# EAGLE library part 7SEG-KC-? (library kiks-discrete)
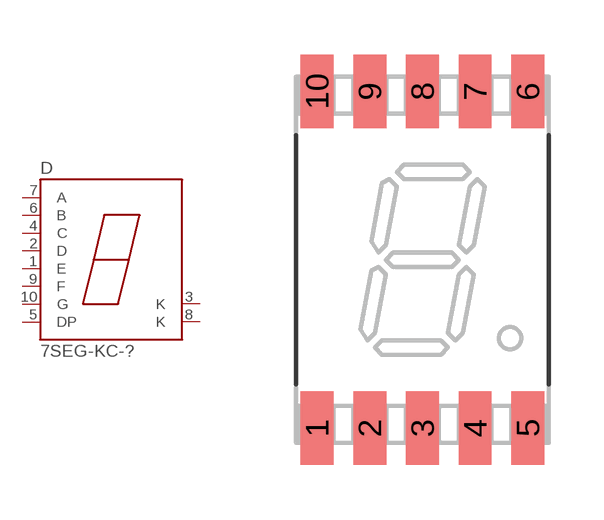
[diagram p0: symbol with the pads of ACSC02; footprint ACSC02]

Designator prefix D

## 7SEG-KC-ACSC02  [ACSC02]
1  E
2  D
3  K
4  C
5  DP
6  B
7  A
8  K
9  F
10  G

## Footprint ACSC02 (pad centres in mm)
smd 0.9 x 2: 1 -2.88,-4.6; 2 -1.44,-4.6; 3 0,-4.6; 4 1.44,-4.6; 5 2.88,-4.6; 6 2.88,4.6; 7 1.44,4.6; 8 0,4.6; 9 -1.44,4.6; 10 -2.88,4.6